# Altium footprint library prj_l476.PcbLib: 35 footprints (part 1 of 3)
Each footprint in its own frame and in the unit in brackets; x right, y up, seen from the top. Pads: shape width x height; smd on the part's side, far side on the other; paste and mask are expansions set on the pad; w line width, h text height; cw(c..) or ccw(c..) is an arc to the next point about the centre after c.
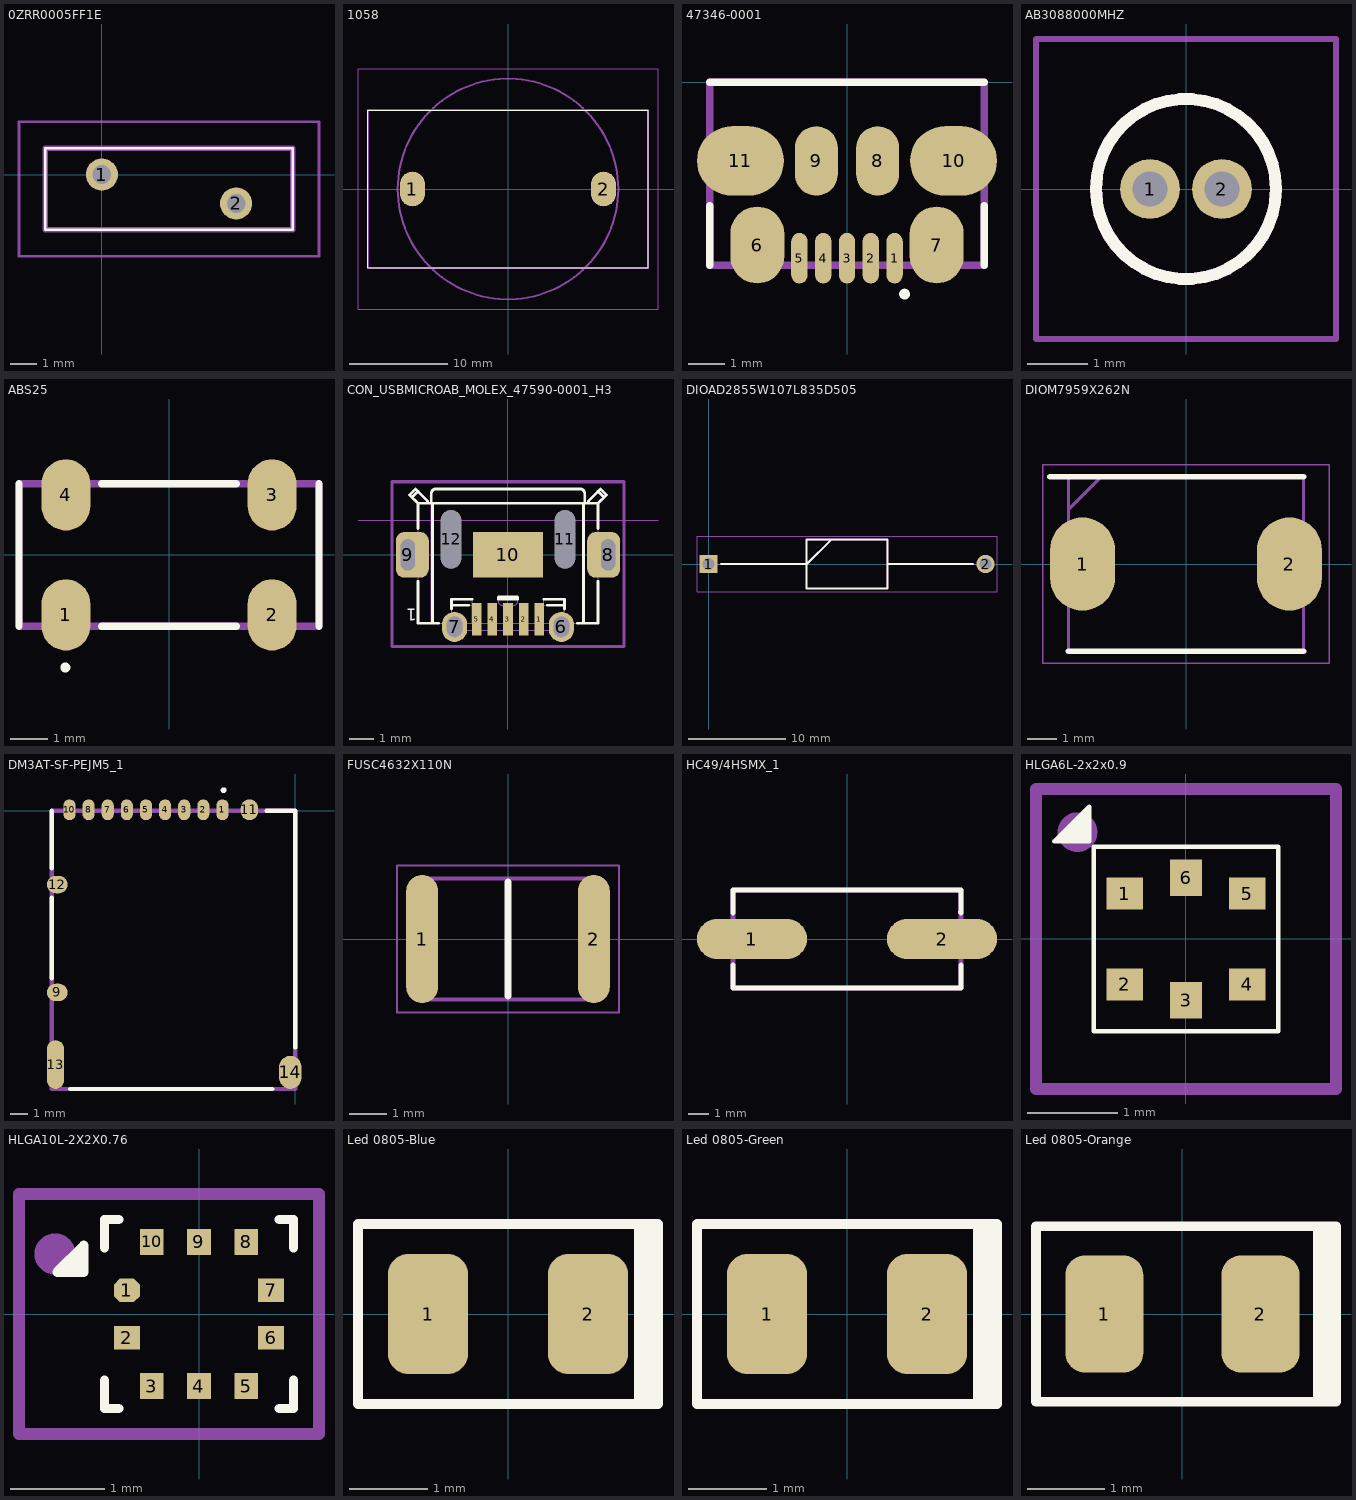
[diagram p0: the footprints below, top view; thin cyan lines are the x and y axes]

## 0ZRR0005FF1E [mm]
pads (2):
  round 1.217 hole 0.71: 1(0,0) 2(5.1,-1.1)
Top Overlay:
  lines w0.1: -2.15,-2.1 7.25,-2.1 7.25,1 -2.15,1 -2.15,-2.1
Mechanical 13:
  lines w0.2: -2.15,-2.1 7.25,-2.1 7.25,1 -2.15,1 -2.15,-2.1
Mechanical 15:
  lines w0.1: -3.15,-3.1 8.25,-3.1 ; -3.15,-3.1 -3.15,2 ; -3.15,-3.1 8.25,-3.1 ; -3.15,-3.1 -3.15,2 ; -3.15,2 8.25,2 ; -3.15,2 8.25,2 ; 8.25,-3.1 8.25,2 ; 8.25,-3.1 8.25,2
3D body "0ZRR0005FF1E.stp": height 12.7, standoff -5, extent -2.15,-2.1 7.25,1

## 1058 [mm]
pads (2):
  oval 2.54x3.51 smd: 1(-9.68,0) 2(9.68,0)
Top Overlay:
  lines w0.1: -14.2,-8 -14.2,8 14.2,8 14.2,-8 -14.2,-8
Mechanical 13:
  lines w0.2: -14.2,-8 -14.2,8 14.2,8 14.2,-8 -14.2,-8 ; -11.175,0 cw(c0,0) 11.175,0 cw(c0,0) -11.175,0
Mechanical 15:
  lines w0.1: -15.2,-12.175 -15.2,12.175 15.2,12.175 15.2,-12.175 -15.2,-12.175

## 47346-0001 [mm]
pads (11):
  oval 0.45x1.38 smd: 1(1.3,-4.81) 2(0.65,-4.81) 3(0,-4.81) 4(-0.65,-4.81) 5(-1.3,-4.81)
  oval 1.475x2.1 smd: 6(-2.452,-4.45) 7(2.452,-4.45)
  oval 1.175x1.9 smd: 8(0.837,-2.15) 9(-0.837,-2.15)
  oval 2.375x1.9 smd: 10(2.913,-2.15) 11(-2.913,-2.15)
Top Overlay:
  circle w0.2: c1.572,-5.79 r0.046
  lines w0.2: -3.75,-5 -3.75,-3.373 ; -3.75,0 3.75,0 ; 3.75,-5 3.75,-3.373
Mechanical 13:
  lines w0.2: -3.75,-5 -3.75,0 3.75,0 3.75,-5 -3.75,-5

## AB3088000MHZ [mm]
pads (2):
  round 1 hole 0.59: 1(-0.6,0) 2(0.6,0)
Top Overlay:
  lines w0.2: -1.5,0 ccw(c0,0) 1.5,0 ccw(c0,0) -1.5,0
Mechanical 13:
  lines w0.2: -1.5,0 ccw(c0,0) 1.5,0 ccw(c0,0) -1.5,0
Mechanical 15:
  lines w0.1: -2.5,-2.5 -2.5,2.5 2.5,2.5 2.5,-2.5 -2.5,-2.5

## ABS25 [mm]
pads (4):
  oval 1.3x1.9 smd: 1(-2.75,-1.6) 2(2.75,-1.6) 3(2.75,1.6) 4(-2.75,1.6)
Top Overlay:
  circle w0.2: c-2.766,-3.001 r0.033
  lines w0.2: -4,-1.9 -4,1.9 ; -1.8,-1.9 1.8,-1.9 ; -1.8,1.9 1.8,1.9 ; 4,-1.9 4,1.9
Mechanical 13:
  lines w0.2: -4,-1.9 -4,1.9 4,1.9 4,-1.9 -4,-1.9

## CON_USBMICROAB_MOLEX_47590-0001_H3 [mm] "CON_USBMICROAB_MOLEX_47590-0001_H3"
pads (12):
  rect 0.4x1.35 smd mask+0.05: 1(1.3,-2.675) 2(0.65,-2.675) 3(0,-2.675) 4(-0.65,-2.675) 5(-1.3,-2.675)
  oval 1.05x1.25 hole 0.65 slot 0.85 at 90 deg mask+0.05: 6(2.225,-3) 7(-2.225,-3)
  rrect50% 1.375x1.9 hole 0.6 slot 1.3 at 90 deg copper offset -0.188,0 mask+0.05: 8(4.175,0)
  rrect50% 1.375x1.9 hole 0.6 slot 1.3 at 90 deg copper offset 0.188,0 mask+0.05: 9(-4.175,0)
  rect 2.9x1.9 smd mask+0.05: 10(0,0)
  oval 0.85x2.425 hole 0.85 slot 2.425 at 90 deg unplated mask+0.1: 11(2.375,0.65) 12(-2.375,0.65)
Top Overlay:
  lines w0.12: -4,2.4 -3.75,2.65 ; -3.75,-1.1 -3.75,-2.85 -2.9,-2.85 ; -3.75,1.1 -3.75,2.15 ; -3.35,2.15 -3.35,2.25 -3.85,2.75 -4.1,2.5 -3.75,2.15 ; -3.2,2.15 -3.2,2.55 cw(c-3,2.55) -3,2.75 3,2.75 cw(c3,2.55) 3.2,2.55 3.2,2.15 ; -3.15,-2.85 -3.15,2.15 ; -2.35,-2.25 -2.35,-1.85 -1.5,-1.85 ; -2.35,-2.1 -1.65,-2.1 ; 1.5,-1.85 2.35,-1.85 2.35,-2.25 ; 1.65,-2.1 2.35,-2.1 ; 2.9,-2.85 3.75,-2.85 3.75,-1.1 ; 3.15,-2.85 3.15,1.2 3.15,2.15 ; 3.35,2.15 3.35,2.25 3.85,2.75 4.1,2.5 3.75,2.15 ; 3.75,1.1 3.75,2.15 ; 3.75,2.65 4,2.4 ; -3.75,2.15 3.75,2.15 ; -0.4,-1.85 -0.4,-1.75 0.4,-1.75 0.4,-1.85 -0.4,-1.85
  text "1" at -3.8,-2.25 h0.51
Mechanical 15:
  lines w0.127: -4.826,-3.81 -4.826,3.048 4.826,3.048 4.826,-3.81 -4.826,-3.81
  text ".Designator" at -3.175,-1.397 h0.89
Mechanical 16:
  lines w0.01: -6.25,1.45 6.25,1.45 ; -3.9,-0.65 -3.9,0.65 ; -3.75,-0.65 -4.4,-0.65 -4.4,0.65 -3.75,0.65 ; -3.75,2.65 -4,2.4 ; -3.35,2.15 -3.35,2.25 -3.85,2.75 -4.1,2.5 ; -2.5,-2.85 -2.5,-3.15 1.57,-3.15 2.5,-3.15 2.5,-2.85 ; -2.35,-2.85 -2.35,-1.85 -1.5,-1.85 -1.5,-2.85 ; -2.35,-2.1 -1.5,-2.1 ; -1.45,-3.15 -1.45,-3.3 -1.15,-3.3 -1.15,-3.15 ; -0.8,-3.15 -0.8,-3.3 -0.5,-3.3 -0.5,-3.15 ; -0.4,-1.85 0.4,-1.85 ; -0.15,-3.15 -0.15,-3.3 0.15,-3.3 0.15,-3.15 ; 0.5,-3.15 0.5,-3.3 0.8,-3.3 0.8,-3.15 ; 1.15,-3.15 1.15,-3.3 1.45,-3.3 1.45,-3.15 ; 1.5,-2.85 1.5,-1.85 2.35,-1.85 2.35,-2.85 ; 1.5,-2.1 2.35,-2.1 ; 3.2,-2.85 3.2,2.15 3.2,2.55 ccw(c3,2.55) 3,2.75 ; 3.35,2.15 3.35,2.25 3.85,2.75 4.1,2.5 3.75,2.15 ; 3.75,-0.65 4.4,-0.65 4.4,0.65 3.75,0.65 ; 3.75,2.65 4,2.4 ; 3.9,-0.65 3.9,0.65 ; -4.1,2.5 -3.75,2.15 ; -4.1,2.5 -4,2.4 ; -4.1,2.5 -4,2.4 ; -3.75,2.15 -3.75,-2.85 3.75,-2.85 3.75,2.15 ; -3.75,2.15 3.75,2.15 ; -3.2,-2.85 -3.2,-2.85 ; -3.2,-2.85 -3.2,2.15 ; -3.2,2.15 -3.2,2.55 cw(c-3,2.55) -3,2.75 3,2.75 ; -3.2,2.15 -3.2,2.15 ; -3.2,2.15 -3.2,2.15 ; -0.4,-1.75 0.4,-1.75 ; -0.4,-1.75 -0.4,-1.925 ccw(c-0.237,-1.937) -0.25,-2.1 0.25,-2.1 ccw(c0.238,-1.937) 0.4,-1.925 0.4,-1.75 ; -0.4,-1.75 0.4,-1.75 ; 3,2.75 3,2.75 ; 3,2.75 3,2.75 ; -4.85,-3.8 2.2,-3.8 4.85,-3.8 4.85,3.05 3.1,3.05 -4.85,3.05 -4.85,-3.8
Mechanical 27:
  text "5" at 1.5,-2.1 h0.51
  text "1" at -1.2,-2.1 h0.51
  text "PCB" at 6.2,2.15 h0.51
  text "EDGE" at -4.25,2.15 h0.51
3D body: height 3, standoff 0, extent -2.499,-3.149 2.5,-2.851
3D body: height 3, standoff 0, extent -4.16,-2.91 4.16,2.81
3D body "MOLEX_47590-0001.stp": height 2.72, standoff -0.64, extent -4.325,-3.15 4.325,2.75

## DIOAD2855W107L835D505 [mm]
pads (2):
  rect 1.875x1.875 hole 1.25: 1(0,0)
  round 1.875 hole 1.25: 2(28.6,0)
Top Overlay:
  lines w0.2: 1.288,0 10.125,0 12.65,2.525 ; 18.475,0 27.312,0 ; 10.125,-2.525 10.125,2.525 18.475,2.525 18.475,-2.525 10.125,-2.525
Mechanical 13:
  lines w0.1: 0,0 10.125,0 12.65,2.525 ; 18.475,0 28.6,0 ; 10.125,-2.525 10.125,2.525 18.475,2.525 18.475,-2.525 10.125,-2.525
Mechanical 15:
  lines w0.05: -1.188,-2.875 -1.188,2.875 29.787,2.875 29.787,-2.875 -1.188,-2.875
3D body "1.5KE15AHE3_A_C.stp": height 5.3, standoff -5.3, extent -0.531,-2.65 29.085,2.65

## DIOM7959X262N [mm]
pads (2):
  oval 2.2x3.15 smd: 1(-3.5,0) 2(3.5,0)
Top Overlay:
  lines w0.2: -4.6,2.952 3.97,2.952 ; -3.97,-2.952 3.97,-2.952
Mechanical 13:
  lines w0.1: -3.97,1.852 -2.87,2.952 ; -3.97,-2.952 3.97,-2.952 3.97,2.952 -3.97,2.952 -3.97,-2.952
Mechanical 15:
  lines w0.05: -4.85,-3.36 4.85,-3.36 4.85,3.36 -4.85,3.36 -4.85,-3.36
3D body "SMCJ1.5KE6.8A-TP.stp": height 2.62, standoff 0, extent -3.97,-2.953 3.97,2.953

## DM3AT-SF-PEJM5_1 [mm]
pads (14):
  oval 0.7x1.2 smd: 1(-4.191,0.057) 2(-5.291,0.057) 3(-6.391,0.057) 4(-7.491,0.057) 5(-8.591,0.057) 6(-9.691,0.057) 7(-10.791,0.057) 8(-11.891,0.057) 10(-12.991,0.057)
  oval 1.2x1 smd: 9(-13.691,-10.443) 12(-13.691,-4.243)
  oval 1x1.2 smd: 11(-2.641,0.057)
  oval 1x2.8 smd: 13(-13.791,-14.593)
  oval 1.3x1.9 smd: 14(-0.291,-15.043)
Top Overlay:
  circle w0.2: c-4.124,1.186 r0.068
  lines w0.254: -14,-9.625 -14,-5.012 ; -14,-3.303 -14,0 ; -12.934,-16 -1.316,-16 ; -1.657,0 0,0 0,-13.611
Mechanical 13:
  lines w0.254: -14,-16 0,-16 0,0 -14,0 -14,-16
3D body "DM3AT-SF-PEJM5.stp": height 1.68, standoff 0, extent -13.97,-16.076 -0.12,0.074

## FUSC4632X110N [mm]
pads (2):
  oval 0.85x3.43 smd: 1(-2.3,0) 2(2.3,0)
Top Overlay:
  lines w0.2: 0,-1.52 0,1.52
Mechanical 13:
  lines w0.1: -2.275,-1.62 2.275,-1.62 2.275,1.62 -2.275,1.62 -2.275,-1.62
Mechanical 15:
  lines w0.05: -2.975,-1.965 2.975,-1.965 2.975,1.965 -2.975,1.965 -2.975,-1.965
3D body "MF-MSMF010-2.stp": height 1.1, standoff 0, extent -2.275,-1.62 2.275,1.62

## HC49/4HSMX_1 [mm]
pads (2):
  oval 5.5x2 smd: 1(-4.75,0) 2(4.75,0)
Top Overlay:
  lines w0.254: -5.7,-1.3 -5.7,-2.45 5.7,-2.45 5.7,-1.3 ; -5.7,1.3 -5.7,2.45 5.7,2.45 5.7,1.3 5.689,1.337
Mechanical 13:
  lines w0.254: -5.7,-2.45 5.7,-2.45 5.7,2.45 -5.7,2.45 -5.7,-2.45

## HLGA6L-2x2x0.9 [mm] "HLGA6L 2x2x0.9mm pitch1mm"
pads (6):
  rect 0.4x0.35 smd mask+0.05: 1(-0.675,0.5) 2(-0.675,-0.5) 4(0.675,-0.5) 5(0.675,0.5)
  rect 0.35x0.4 smd mask+0.05: 3(0,-0.675) 6(0,0.675)
Top Overlay:
  lines w0.05: -1.092,1.177 -1.194,1.177 -1.118,1.151 -1.092,1.228 -1.295,1.126 -1.118,1.126 -1.092,1.075 -1.092,1.304 -1.27,1.101 -1.346,1.126 -1.067,1.38 -1.321,1.101 -1.397,1.101 -1.067,1.456 ; -1.067,1.456 -1.448,1.075 -1.067,1.075 -1.067,1.456 ; -1.016,-1.016 1.016,-1.016 1.016,1.016 -1.016,1.016 -1.016,-1.016
Mechanical 15:
  circle w0.254: c-1.194,1.177 r0.091
  lines w0.127: -1.651,-1.651 -1.651,1.651 1.651,1.651 1.651,-1.651 -1.651,-1.651
  text ".Designator" at -1.524,-0.508 h0.89
3D body: height 1, standoff 0.9, extent -0.929,0.431 -0.43,0.93
3D body: height 0.9, standoff 0, extent -1.016,-1.016 1.016,1.016

## HLGA10L-2X2X0.76 [mm] "Name Type Description Vault Item Revision Revision Status    HLGA10L-2X2X0.76 Footprint HLGA-10L 2x2x0.76mm pitch 0.5mm"
pads (10):
  oct 0.275x0.25 smd paste+0 mask+0.05: 1(-0.763,0.25)
  rect 0.275x0.25 smd paste+0 mask+0.05: 2(-0.763,-0.25) 6(0.762,-0.25) 7(0.762,0.25)
  rect 0.25x0.275 smd paste+0 mask+0.05: 3(-0.5,-0.763) 4(0,-0.763) 5(0.5,-0.763) 8(0.5,0.762) 9(0,0.762) 10(-0.5,0.762)
Top Overlay:
  lines w0.1: -1.27,0.584 -1.27,0.483 -1.397,0.483 -1.219,0.661 -1.219,0.726 ; -1,-0.7 -1,-1 -0.85,-1 ; -1,0.7 -1,1 -0.85,1 ; 0.85,-1 1,-1 1,-0.7 ; 0.85,1 1,1 1,0.7 ; -1.219,0.726 -1.219,0.443 -1.502,0.443 -1.219,0.726
Mechanical 15:
  circle w0.254: c-1.524,0.635 r0.091
  lines w0.127: -1.905,-1.27 -1.905,1.27 1.27,1.27 1.27,-1.27 -1.905,-1.27
  text ".Designator" at -1.905,-0.635 h0.89
3D body: height 0.77, standoff 0.76, extent -0.862,0.154 -0.662,0.354
3D body: height 0.76, standoff 0, extent -1.016,-1.016 1.016,1.016

## Led 0805-Blue [mil]
pads (2):
  rrect50% 40x60 smd: 1(-40,0) 2(40,0)
Top Overlay:
  rectangle: 62.99,-45 74.8,45
  lines w5: -75,-45 75,-45 75,45 -75,45 -75,-45
3D body "Led 0805-Blue.STEP": height 43.31, standoff 0, extent -39.77,-24.61 39.76,24.6

## Led 0805-Green [mil]
pads (2):
  rrect50% 40x60 smd: 1(-40,0) 2(40,0)
Top Overlay:
  rectangle: 62.99,-45 74.8,45
  lines w5: -75,-45 75,-45 75,45 -75,45 -75,-45
3D body "Led 0805-Green.STEP": height 43.31, standoff 0, extent -39.77,-24.61 39.76,24.6

## Led 0805-Orange [mil]
pads (2):
  rrect50% 40x60 smd: 1(-40,0) 2(40,0)
Top Overlay:
  rectangle: 66.93,-45 78.74,45
  lines w5: -75,-45 78.74,-45 78.74,45 -75,45 -75,-45
3D body "Led 0805-Orange.STEP": height 43.31, standoff 0, extent -39.77,-24.61 39.76,24.6